# Altium schematic symbol library WR-FAST.SchLib: 56 symbols
Pins are listed as number, name and electrical type; pins without a type are passive.

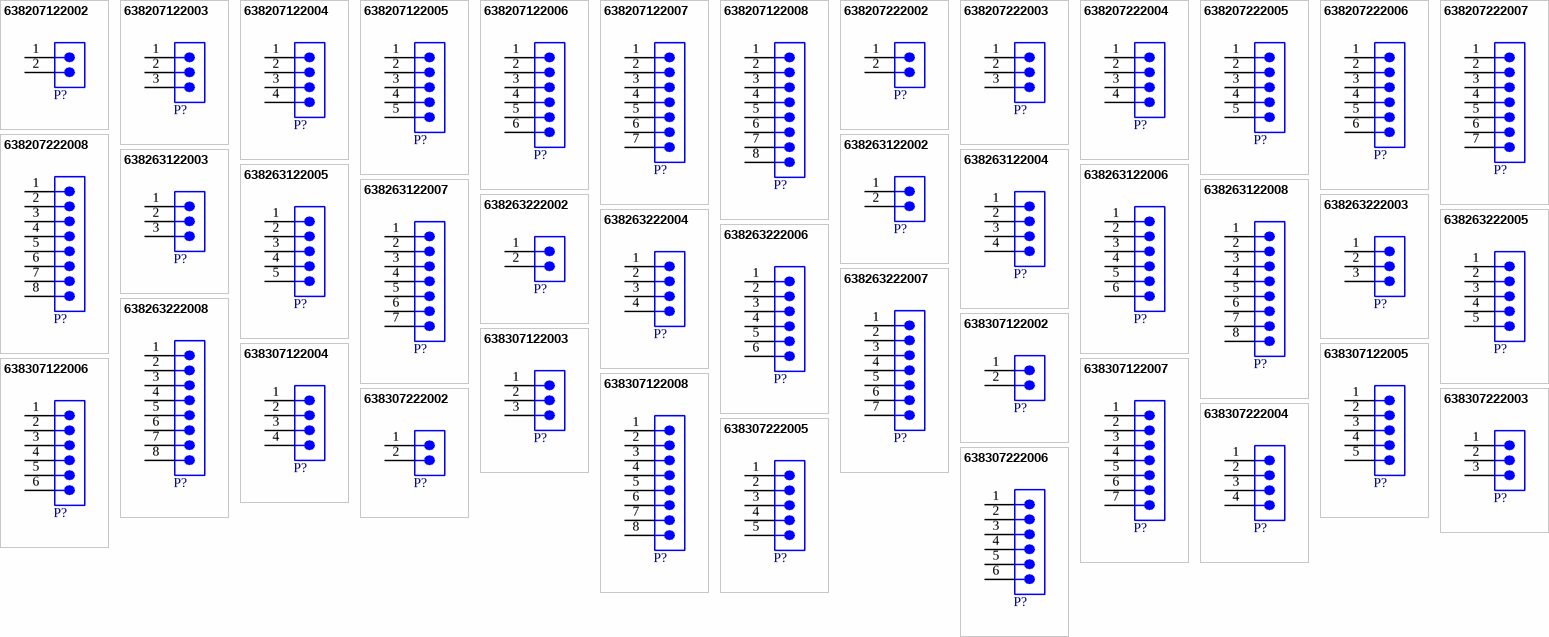
[diagram p0: symbols 638207122002 to 638307222006]

## 638207122002
designator P?  (value not drawn)
WR-FAST THT Male Header Angled Blade, pitch 5.08mm, 2p; Manufacturer: Wurth Elektronik; Contact Resistance: 20mΩ; Rated Current: 16A; Working Voltage: 300VAC; ComponentLink1Description: Website Link; ComponentLink1URL: https://www.we-online.com/redexpert/article/638207122002?ad; ComponentLink2Description: Datasheet Link; ComponentLink2URL: https://www.we-online.com/redexpert/spec/638207122002?ad; Manufacturer Part Number: 638207122002; Category: Wire-to-Board Connectors; Match Code: WR-FAST; Mount: Through Hole; Operating Temperature Max: 120°C; Operating Temperature Min: -30°C; Packaging: Carton; Gender: Male; Number of Pins: 2; Orientation: Right Angled; Pitch: 5.08mm
footprint 638207122002
pins: 1, 2

## 638207122003
designator P?  (value not drawn)
WR-FAST THT Male Header Angled Blade, pitch 5.08mm, 3p; Manufacturer: Wurth Elektronik; Contact Resistance: 20mΩ; Rated Current: 16A; Working Voltage: 300VAC; ComponentLink1Description: Website Link; ComponentLink1URL: https://www.we-online.com/redexpert/article/638207122003?ad; ComponentLink2Description: Datasheet Link; ComponentLink2URL: https://www.we-online.com/redexpert/spec/638207122003?ad; Manufacturer Part Number: 638207122003; Category: Wire-to-Board Connectors; Match Code: WR-FAST; Mount: Through Hole; Operating Temperature Max: 120°C; Operating Temperature Min: -30°C; Packaging: Carton; Gender: Male; Number of Pins: 3; Orientation: Right Angled; Pitch: 5.08mm
footprint 638207122003
pins: 1, 2, 3

## 638207122004
designator P?  (value not drawn)
WR-FAST THT Male Header Angled Blade, pitch 5.08mm, 4p; Manufacturer: Wurth Elektronik; Contact Resistance: 20mΩ; Rated Current: 16A; Working Voltage: 300VAC; ComponentLink1Description: Website Link; ComponentLink1URL: https://www.we-online.com/redexpert/article/638207122004?ad; ComponentLink2Description: Datasheet Link; ComponentLink2URL: https://www.we-online.com/redexpert/spec/638207122004?ad; Manufacturer Part Number: 638207122004; Category: Wire-to-Board Connectors; Match Code: WR-FAST; Mount: Through Hole; Operating Temperature Max: 120°C; Operating Temperature Min: -30°C; Packaging: Carton; Gender: Male; Number of Pins: 4; Orientation: Right Angled; Pitch: 5.08mm
footprint 638207122004
pins: 1, 2, 3, 4

## 638207122005
designator P?  (value not drawn)
WR-FAST THT Male Header Angled Blade, pitch 5.08mm, 5p; Manufacturer: Wurth Elektronik; Contact Resistance: 20mΩ; Rated Current: 16A; Working Voltage: 300VAC; ComponentLink1Description: Website Link; ComponentLink1URL: https://www.we-online.com/redexpert/article/638207122005?ad; ComponentLink2Description: Datasheet Link; ComponentLink2URL: https://www.we-online.com/redexpert/spec/638207122005?ad; Manufacturer Part Number: 638207122005; Category: Wire-to-Board Connectors; Match Code: WR-FAST; Mount: Through Hole; Operating Temperature Max: 120°C; Operating Temperature Min: -30°C; Packaging: Carton; Gender: Male; Number of Pins: 5; Orientation: Right Angled; Pitch: 5.08mm
footprint 638207122005
pins: 1, 2, 3, 4, 5

## 638207122006
designator P?  (value not drawn)
WR-FAST THT Male Header Angled Blade, pitch 5.08mm, 6p; Manufacturer: Wurth Elektronik; Contact Resistance: 20mΩ; Rated Current: 16A; Working Voltage: 300VAC; ComponentLink1Description: Website Link; ComponentLink1URL: https://www.we-online.com/redexpert/article/638207122006?ad; ComponentLink2Description: Datasheet Link; ComponentLink2URL: https://www.we-online.com/redexpert/spec/638207122006?ad; Manufacturer Part Number: 638207122006; Category: Wire-to-Board Connectors; Match Code: WR-FAST; Mount: Through Hole; Operating Temperature Max: 120°C; Operating Temperature Min: -30°C; Packaging: Carton; Gender: Male; Number of Pins: 6; Orientation: Right Angled; Pitch: 5.08mm
footprint 638207122006
pins: 1, 2, 3, 4, 5, 6

## 638207122007
designator P?  (value not drawn)
WR-FAST THT Male Header Angled Blade, pitch 5.08mm, 7p; Manufacturer: Wurth Elektronik; Contact Resistance: 20mΩ; Rated Current: 16A; Working Voltage: 300VAC; ComponentLink1Description: Website Link; ComponentLink1URL: https://www.we-online.com/redexpert/article/638207122007?ad; ComponentLink2Description: Datasheet Link; ComponentLink2URL: https://www.we-online.com/redexpert/spec/638207122007?ad; Manufacturer Part Number: 638207122007; Category: Wire-to-Board Connectors; Match Code: WR-FAST; Mount: Through Hole; Operating Temperature Max: 120°C; Operating Temperature Min: -30°C; Packaging: Carton; Gender: Male; Number of Pins: 7; Orientation: Right Angled; Pitch: 5.08mm
footprint 638207122007
pins: 1, 2, 3, 4, 5, 6, 7

## 638207122008
designator P?  (value not drawn)
WR-FAST THT Male Header Angled Blade, pitch 5.08mm, 8p; Manufacturer: Wurth Elektronik; Contact Resistance: 20mΩ; Rated Current: 16A; Working Voltage: 300VAC; ComponentLink1Description: Website Link; ComponentLink1URL: https://www.we-online.com/redexpert/article/638207122008?ad; ComponentLink2Description: Datasheet Link; ComponentLink2URL: https://www.we-online.com/redexpert/spec/638207122008?ad; Manufacturer Part Number: 638207122008; Category: Wire-to-Board Connectors; Match Code: WR-FAST; Mount: Through Hole; Operating Temperature Max: 120°C; Operating Temperature Min: -30°C; Packaging: Carton; Gender: Male; Number of Pins: 8; Orientation: Right Angled; Pitch: 5.08mm
footprint 638207122008
pins: 1, 2, 3, 4, 5, 6, 7, 8

## 638207222002
designator P?  (value not drawn)
WR-FAST THT Male Header Vertical Blade, pitch 5.08mm, 2p; Manufacturer: Wurth Elektronik; Contact Resistance: 20mΩ; Rated Current: 16A; Working Voltage: 300VAC; ComponentLink1Description: Website Link; ComponentLink1URL: https://www.we-online.com/redexpert/article/638207222002?ad; ComponentLink2Description: Datasheet Link; ComponentLink2URL: https://www.we-online.com/redexpert/spec/638207222002?ad; Manufacturer Part Number: 638207222002; Category: Wire-to-Board Connectors; Match Code: WR-FAST; Mount: Through Hole; Operating Temperature Max: 120°C; Operating Temperature Min: -30°C; Packaging: Carton; Gender: Male; Number of Pins: 2; Orientation: Vertical; Pitch: 5.08mm
footprint 638207222002
pins: 1, 2

## 638207222003
designator P?  (value not drawn)
WR-FAST THT Male Header Vertical Blade, pitch 5.08mm, 3p; Manufacturer: Wurth Elektronik; Contact Resistance: 20mΩ; Rated Current: 16A; Working Voltage: 300VAC; ComponentLink1Description: Website Link; ComponentLink1URL: https://www.we-online.com/redexpert/article/638207222003?ad; ComponentLink2Description: Datasheet Link; ComponentLink2URL: https://www.we-online.com/redexpert/spec/638207222003?ad; Manufacturer Part Number: 638207222003; Category: Wire-to-Board Connectors; Match Code: WR-FAST; Mount: Through Hole; Operating Temperature Max: 120°C; Operating Temperature Min: -30°C; Packaging: Carton; Gender: Male; Number of Pins: 3; Orientation: Vertical; Pitch: 5.08mm
footprint 638207222003
pins: 1, 2, 3

## 638207222004
designator P?  (value not drawn)
WR-FAST THT Male Header Vertical Blade, pitch 5.08mm, 4p; Manufacturer: Wurth Elektronik; Contact Resistance: 20mΩ; Rated Current: 16A; Working Voltage: 300VAC; ComponentLink1Description: Website Link; ComponentLink1URL: https://www.we-online.com/redexpert/article/638207222004?ad; ComponentLink2Description: Datasheet Link; ComponentLink2URL: https://www.we-online.com/redexpert/spec/638207222004?ad; Manufacturer Part Number: 638207222004; Category: Wire-to-Board Connectors; Match Code: WR-FAST; Mount: Through Hole; Operating Temperature Max: 120°C; Operating Temperature Min: -30°C; Packaging: Carton; Gender: Male; Number of Pins: 4; Orientation: Vertical; Pitch: 5.08mm
footprint 638207222004
pins: 1, 2, 3, 4

## 638207222005
designator P?  (value not drawn)
WR-FAST THT Male Header Vertical Blade, pitch 5.08mm, 5p; Manufacturer: Wurth Elektronik; Contact Resistance: 20mΩ; Rated Current: 16A; Working Voltage: 300VAC; ComponentLink1Description: Website Link; ComponentLink1URL: https://www.we-online.com/redexpert/article/638207222005?ad; ComponentLink2Description: Datasheet Link; ComponentLink2URL: https://www.we-online.com/redexpert/spec/638207222005?ad; Manufacturer Part Number: 638207222005; Category: Wire-to-Board Connectors; Match Code: WR-FAST; Mount: Through Hole; Operating Temperature Max: 120°C; Operating Temperature Min: -30°C; Packaging: Carton; Gender: Male; Number of Pins: 5; Orientation: Vertical; Pitch: 5.08mm
footprint 638207222005
pins: 1, 2, 3, 4, 5

## 638207222006
designator P?  (value not drawn)
WR-FAST THT Male Header Vertical Blade, pitch 5.08mm, 6p; Manufacturer: Wurth Elektronik; Contact Resistance: 20mΩ; Rated Current: 16A; Working Voltage: 300VAC; ComponentLink1Description: Website Link; ComponentLink1URL: https://www.we-online.com/redexpert/article/638207222006?ad; ComponentLink2Description: Datasheet Link; ComponentLink2URL: https://www.we-online.com/redexpert/spec/638207222006?ad; Manufacturer Part Number: 638207222006; Category: Wire-to-Board Connectors; Match Code: WR-FAST; Mount: Through Hole; Operating Temperature Max: 120°C; Operating Temperature Min: -30°C; Packaging: Carton; Gender: Male; Number of Pins: 6; Orientation: Vertical; Pitch: 5.08mm
footprint 638207222006
pins: 1, 2, 3, 4, 5, 6

## 638207222007
designator P?  (value not drawn)
WR-FAST THT Male Header Vertical Blade, pitch 5.08mm, 7p; Manufacturer: Wurth Elektronik; Contact Resistance: 20mΩ; Rated Current: 16A; Working Voltage: 300VAC; ComponentLink1Description: Website Link; ComponentLink1URL: https://www.we-online.com/redexpert/article/638207222007?ad; ComponentLink2Description: Datasheet Link; ComponentLink2URL: https://www.we-online.com/redexpert/spec/638207222007?ad; Manufacturer Part Number: 638207222007; Category: Wire-to-Board Connectors; Match Code: WR-FAST; Mount: Through Hole; Operating Temperature Max: 120°C; Operating Temperature Min: -30°C; Packaging: Carton; Gender: Male; Number of Pins: 7; Orientation: Vertical; Pitch: 5.08mm
footprint 638207222007
pins: 1, 2, 3, 4, 5, 6, 7

## 638207222008
designator P?  (value not drawn)
WR-FAST THT Male Header Vertical Blade, pitch 5.08mm, 8p; Manufacturer: Wurth Elektronik; Contact Resistance: 20mΩ; Rated Current: 16A; Working Voltage: 300VAC; ComponentLink1Description: Website Link; ComponentLink1URL: https://www.we-online.com/redexpert/article/638207222008?ad; ComponentLink2Description: Datasheet Link; ComponentLink2URL: https://www.we-online.com/redexpert/spec/638207222008?ad; Manufacturer Part Number: 638207222008; Category: Wire-to-Board Connectors; Match Code: WR-FAST; Mount: Through Hole; Operating Temperature Max: 120°C; Operating Temperature Min: -30°C; Packaging: Carton; Gender: Male; Number of Pins: 8; Orientation: Vertical; Pitch: 5.08mm
footprint 638207222008
pins: 1, 2, 3, 4, 5, 6, 7, 8

## 638263122002
designator P?  (value not drawn)
WR-FAST THT Male Header Angled Blade, pitch 5.08mm, 2p; Manufacturer: Wurth Elektronik; Contact Resistance: 20mΩ; Rated Current: 16A; Working Voltage: 300VAC; ComponentLink1Description: Website Link; ComponentLink1URL: https://www.we-online.com/redexpert/article/638263122002?ad; ComponentLink2Description: Datasheet Link; ComponentLink2URL: https://www.we-online.com/redexpert/spec/638263122002?ad; Manufacturer Part Number: 638263122002; Category: Wire-to-Board Connectors; Match Code: WR-FAST; Mount: Through Hole; Operating Temperature Max: 120°C; Operating Temperature Min: -30°C; Packaging: Carton; Gender: Male; Number of Pins: 2; Orientation: Right Angled; Pitch: 5.08mm
footprint 638263122002
pins: 1, 2

## 638263122003
designator P?  (value not drawn)
WR-FAST THT Male Header Angled Blade, pitch 5.08mm, 3p; Manufacturer: Wurth Elektronik; Contact Resistance: 20mΩ; Rated Current: 16A; Working Voltage: 300VAC; ComponentLink1Description: Website Link; ComponentLink1URL: https://www.we-online.com/redexpert/article/638263122003?ad; ComponentLink2Description: Datasheet Link; ComponentLink2URL: https://www.we-online.com/redexpert/spec/638263122003?ad; Manufacturer Part Number: 638263122003; Category: Wire-to-Board Connectors; Match Code: WR-FAST; Mount: Through Hole; Operating Temperature Max: 120°C; Operating Temperature Min: -30°C; Packaging: Carton; Gender: Male; Number of Pins: 3; Orientation: Right Angled; Pitch: 5.08mm
footprint 638263122003
pins: 1, 2, 3

## 638263122004
designator P?  (value not drawn)
WR-FAST THT Male Header Angled Blade, pitch 5.08mm, 4p; Manufacturer: Wurth Elektronik; Contact Resistance: 20mΩ; Rated Current: 16A; Working Voltage: 300VAC; ComponentLink1Description: Website Link; ComponentLink1URL: https://www.we-online.com/redexpert/article/638263122004?ad; ComponentLink2Description: Datasheet Link; ComponentLink2URL: https://www.we-online.com/redexpert/spec/638263122004?ad; Manufacturer Part Number: 638263122004; Category: Wire-to-Board Connectors; Match Code: WR-FAST; Mount: Through Hole; Operating Temperature Max: 120°C; Operating Temperature Min: -30°C; Packaging: Carton; Gender: Male; Number of Pins: 4; Orientation: Right Angled; Pitch: 5.08mm
footprint 638263122004
pins: 1, 2, 3, 4

## 638263122005
designator P?  (value not drawn)
WR-FAST THT Male Header Angled Blade, pitch 5.08mm, 5p; Manufacturer: Wurth Elektronik; Contact Resistance: 20mΩ; Rated Current: 16A; Working Voltage: 300VAC; ComponentLink1Description: Website Link; ComponentLink1URL: https://www.we-online.com/redexpert/article/638263122005?ad; ComponentLink2Description: Datasheet Link; ComponentLink2URL: https://www.we-online.com/redexpert/spec/638263122005?ad; Manufacturer Part Number: 638263122005; Category: Wire-to-Board Connectors; Match Code: WR-FAST; Mount: Through Hole; Operating Temperature Max: 120°C; Operating Temperature Min: -30°C; Packaging: Carton; Gender: Male; Number of Pins: 5; Orientation: Right Angled; Pitch: 5.08mm
footprint 638263122005
pins: 1, 2, 3, 4, 5

## 638263122006
designator P?  (value not drawn)
WR-FAST THT Male Header Angled Blade, pitch 5.08mm, 6p; Manufacturer: Wurth Elektronik; Contact Resistance: 20mΩ; Rated Current: 16A; Working Voltage: 300VAC; ComponentLink1Description: Website Link; ComponentLink1URL: https://www.we-online.com/redexpert/article/638263122006?ad; ComponentLink2Description: Datasheet Link; ComponentLink2URL: https://www.we-online.com/redexpert/spec/638263122006?ad; Manufacturer Part Number: 638263122006; Category: Wire-to-Board Connectors; Match Code: WR-FAST; Mount: Through Hole; Operating Temperature Max: 120°C; Operating Temperature Min: -30°C; Packaging: Carton; Gender: Male; Number of Pins: 6; Orientation: Right Angled; Pitch: 5.08mm
footprint 638263122006
pins: 1, 2, 3, 4, 5, 6

## 638263122007
designator P?  (value not drawn)
WR-FAST THT Male Header Angled Blade, pitch 5.08mm, 7p; Manufacturer: Wurth Elektronik; Contact Resistance: 20mΩ; Rated Current: 16A; Working Voltage: 300VAC; ComponentLink1Description: Website Link; ComponentLink1URL: https://www.we-online.com/redexpert/article/638263122007?ad; ComponentLink2Description: Datasheet Link; ComponentLink2URL: https://www.we-online.com/redexpert/spec/638263122007?ad; Manufacturer Part Number: 638263122007; Category: Wire-to-Board Connectors; Match Code: WR-FAST; Mount: Through Hole; Operating Temperature Max: 120°C; Operating Temperature Min: -30°C; Packaging: Carton; Gender: Male; Number of Pins: 7; Orientation: Right Angled; Pitch: 5.08mm
footprint 638263122007
pins: 1, 2, 3, 4, 5, 6, 7

## 638263122008
designator P?  (value not drawn)
WR-FAST THT Male Header Angled Blade, pitch 5.08mm, 8p; Manufacturer: Wurth Elektronik; Contact Resistance: 20mΩ; Rated Current: 16A; Working Voltage: 300VAC; ComponentLink1Description: Website Link; ComponentLink1URL: https://www.we-online.com/redexpert/article/638263122008?ad; ComponentLink2Description: Datasheet Link; ComponentLink2URL: https://www.we-online.com/redexpert/spec/638263122008?ad; Manufacturer Part Number: 638263122008; Category: Wire-to-Board Connectors; Match Code: WR-FAST; Mount: Through Hole; Operating Temperature Max: 120°C; Operating Temperature Min: -30°C; Packaging: Carton; Gender: Male; Number of Pins: 8; Orientation: Right Angled; Pitch: 5.08mm
footprint 638263122008
pins: 1, 2, 3, 4, 5, 6, 7, 8

## 638263222002
designator P?  (value not drawn)
WR-FAST THT Male Header Vertical Blade, pitch 5.08mm, 2p; Manufacturer: Wurth Elektronik; Contact Resistance: 20mΩ; Rated Current: 16A; Working Voltage: 300VAC; ComponentLink1Description: Website Link; ComponentLink1URL: https://www.we-online.com/redexpert/article/638263222002?ad; ComponentLink2Description: Datasheet Link; ComponentLink2URL: https://www.we-online.com/redexpert/spec/638263222002?ad; Manufacturer Part Number: 638263222002; Category: Wire-to-Board Connectors; Match Code: WR-FAST; Mount: Through Hole; Operating Temperature Max: 120°C; Operating Temperature Min: -30°C; Packaging: Carton; Gender: Male; Number of Pins: 2; Orientation: Vertical; Pitch: 5.08mm
footprint 638263222002
pins: 1, 2

## 638263222003
designator P?  (value not drawn)
WR-FAST THT Male Header Vertical Blade, pitch 5.08mm, 3p; Manufacturer: Wurth Elektronik; Contact Resistance: 20mΩ; Rated Current: 16A; Working Voltage: 300VAC; ComponentLink1Description: Website Link; ComponentLink1URL: https://www.we-online.com/redexpert/article/638263222003?ad; ComponentLink2Description: Datasheet Link; ComponentLink2URL: https://www.we-online.com/redexpert/spec/638263222003?ad; Manufacturer Part Number: 638263222003; Category: Wire-to-Board Connectors; Match Code: WR-FAST; Mount: Through Hole; Operating Temperature Max: 120°C; Operating Temperature Min: -30°C; Packaging: Carton; Gender: Male; Number of Pins: 3; Orientation: Vertical; Pitch: 5.08mm
footprint 638263222003
pins: 1, 2, 3

## 638263222004
designator P?  (value not drawn)
WR-FAST THT Male Header Vertical Blade, pitch 5.08mm, 4p; Manufacturer: Wurth Elektronik; Contact Resistance: 20mΩ; Rated Current: 16A; Working Voltage: 300VAC; ComponentLink1Description: Website Link; ComponentLink1URL: https://www.we-online.com/redexpert/article/638263222004?ad; ComponentLink2Description: Datasheet Link; ComponentLink2URL: https://www.we-online.com/redexpert/spec/638263222004?ad; Manufacturer Part Number: 638263222004; Category: Wire-to-Board Connectors; Match Code: WR-FAST; Mount: Through Hole; Operating Temperature Max: 120°C; Operating Temperature Min: -30°C; Packaging: Carton; Gender: Male; Number of Pins: 4; Orientation: Vertical; Pitch: 5.08mm
footprint 638263222004
pins: 1, 2, 3, 4

## 638263222005
designator P?  (value not drawn)
WR-FAST THT Male Header Vertical Blade, pitch 5.08mm, 5p; Manufacturer: Wurth Elektronik; Contact Resistance: 20mΩ; Rated Current: 16A; Working Voltage: 300VAC; ComponentLink1Description: Website Link; ComponentLink1URL: https://www.we-online.com/redexpert/article/638263222005?ad; ComponentLink2Description: Datasheet Link; ComponentLink2URL: https://www.we-online.com/redexpert/spec/638263222005?ad; Manufacturer Part Number: 638263222005; Category: Wire-to-Board Connectors; Match Code: WR-FAST; Mount: Through Hole; Operating Temperature Max: 120°C; Operating Temperature Min: -30°C; Packaging: Carton; Gender: Male; Number of Pins: 5; Orientation: Vertical; Pitch: 5.08mm
footprint 638263222005
pins: 1, 2, 3, 4, 5

## 638263222006
designator P?  (value not drawn)
WR-FAST THT Male Header Vertical Blade, pitch 5.08mm, 6p; Manufacturer: Wurth Elektronik; Contact Resistance: 20mΩ; Rated Current: 16A; Working Voltage: 300VAC; ComponentLink1Description: Website Link; ComponentLink1URL: https://www.we-online.com/redexpert/article/638263222006?ad; ComponentLink2Description: Datasheet Link; ComponentLink2URL: https://www.we-online.com/redexpert/spec/638263222006?ad; Manufacturer Part Number: 638263222006; Category: Wire-to-Board Connectors; Match Code: WR-FAST; Mount: Through Hole; Operating Temperature Max: 120°C; Operating Temperature Min: -30°C; Packaging: Carton; Gender: Male; Number of Pins: 6; Orientation: Vertical; Pitch: 5.08mm
footprint 638263222006
pins: 1, 2, 3, 4, 5, 6

## 638263222007
designator P?  (value not drawn)
WR-FAST THT Male Header Vertical Blade, pitch 5.08mm, 7p; Manufacturer: Wurth Elektronik; Contact Resistance: 20mΩ; Rated Current: 16A; Working Voltage: 300VAC; ComponentLink1Description: Website Link; ComponentLink1URL: https://www.we-online.com/redexpert/article/638263222007?ad; ComponentLink2Description: Datasheet Link; ComponentLink2URL: https://www.we-online.com/redexpert/spec/638263222007?ad; Manufacturer Part Number: 638263222007; Category: Wire-to-Board Connectors; Match Code: WR-FAST; Mount: Through Hole; Operating Temperature Max: 120°C; Operating Temperature Min: -30°C; Packaging: Carton; Gender: Male; Number of Pins: 7; Orientation: Vertical; Pitch: 5.08mm
footprint 638263222007
pins: 1, 2, 3, 4, 5, 6, 7

## 638263222008
designator P?  (value not drawn)
WR-FAST THT Male Header Vertical Blade, pitch 5.08mm, 8p; Manufacturer: Wurth Elektronik; Contact Resistance: 20mΩ; Rated Current: 16A; Working Voltage: 300VAC; ComponentLink1Description: Website Link; ComponentLink1URL: https://www.we-online.com/redexpert/article/638263222008?ad; ComponentLink2Description: Datasheet Link; ComponentLink2URL: https://www.we-online.com/redexpert/spec/638263222008?ad; Manufacturer Part Number: 638263222008; Category: Wire-to-Board Connectors; Match Code: WR-FAST; Mount: Through Hole; Operating Temperature Max: 120°C; Operating Temperature Min: -30°C; Packaging: Carton; Gender: Male; Number of Pins: 8; Orientation: Vertical; Pitch: 5.08mm
footprint 638263222008
pins: 1, 2, 3, 4, 5, 6, 7, 8

## 638307122002
designator P?  (value not drawn)
WR-FAST THT Male Header Angled Blade, pitch 7.62mm, 2p; Manufacturer: Wurth Elektronik; Contact Resistance: 20mΩ; Rated Current: 16A; Working Voltage: 300VAC; ComponentLink1Description: Website Link; ComponentLink1URL: https://www.we-online.com/redexpert/article/638307122002?ad; ComponentLink2Description: Datasheet Link; ComponentLink2URL: https://www.we-online.com/redexpert/spec/638307122002?ad; Manufacturer Part Number: 638307122002; Category: Wire-to-Board Connectors; Match Code: WR-FAST; Mount: Through Hole; Operating Temperature Max: 120°C; Operating Temperature Min: -30°C; Packaging: Carton; Gender: Male; Number of Pins: 2; Orientation: Right Angled; Pitch: 7.62mm
footprint 638307122002
pins: 1, 2

## 638307122003
designator P?  (value not drawn)
WR-FAST THT Male Header Angled Blade, pitch 7.62mm, 3p; Manufacturer: Wurth Elektronik; Contact Resistance: 20mΩ; Rated Current: 16A; Working Voltage: 300VAC; ComponentLink1Description: Website Link; ComponentLink1URL: https://www.we-online.com/redexpert/article/638307122003?ad; ComponentLink2Description: Datasheet Link; ComponentLink2URL: https://www.we-online.com/redexpert/spec/638307122003?ad; Manufacturer Part Number: 638307122003; Category: Wire-to-Board Connectors; Match Code: WR-FAST; Mount: Through Hole; Operating Temperature Max: 120°C; Operating Temperature Min: -30°C; Packaging: Carton; Gender: Male; Number of Pins: 3; Orientation: Right Angled; Pitch: 7.62mm
footprint 638307122003
pins: 1, 2, 3

## 638307122004
designator P?  (value not drawn)
WR-FAST THT Male Header Angled Blade, pitch 7.62mm, 4p; Manufacturer: Wurth Elektronik; Contact Resistance: 20mΩ; Rated Current: 16A; Working Voltage: 300VAC; ComponentLink1Description: Website Link; ComponentLink1URL: https://www.we-online.com/redexpert/article/638307122004?ad; ComponentLink2Description: Datasheet Link; ComponentLink2URL: https://www.we-online.com/redexpert/spec/638307122004?ad; Manufacturer Part Number: 638307122004; Category: Wire-to-Board Connectors; Match Code: WR-FAST; Mount: Through Hole; Operating Temperature Max: 120°C; Operating Temperature Min: -30°C; Packaging: Carton; Gender: Male; Number of Pins: 4; Orientation: Right Angled; Pitch: 7.62mm
footprint 638307122004
pins: 1, 2, 3, 4

## 638307122005
designator P?  (value not drawn)
WR-FAST THT Male Header Angled Blade, pitch 7.62mm, 5p; Manufacturer: Wurth Elektronik; Contact Resistance: 20mΩ; Rated Current: 16A; Working Voltage: 300VAC; ComponentLink1Description: Website Link; ComponentLink1URL: https://www.we-online.com/redexpert/article/638307122005?ad; ComponentLink2Description: Datasheet Link; ComponentLink2URL: https://www.we-online.com/redexpert/spec/638307122005?ad; Manufacturer Part Number: 638307122005; Category: Wire-to-Board Connectors; Match Code: WR-FAST; Mount: Through Hole; Operating Temperature Max: 120°C; Operating Temperature Min: -30°C; Packaging: Carton; Gender: Male; Number of Pins: 5; Orientation: Right Angled; Pitch: 7.62mm
footprint 638307122005
pins: 1, 2, 3, 4, 5

## 638307122006
designator P?  (value not drawn)
WR-FAST THT Male Header Angled Blade, pitch 7.62mm, 6p; Manufacturer: Wurth Elektronik; Contact Resistance: 20mΩ; Rated Current: 16A; Working Voltage: 300VAC; ComponentLink1Description: Website Link; ComponentLink1URL: https://www.we-online.com/redexpert/article/638307122006?ad; ComponentLink2Description: Datasheet Link; ComponentLink2URL: https://www.we-online.com/redexpert/spec/638307122006?ad; Manufacturer Part Number: 638307122006; Category: Wire-to-Board Connectors; Match Code: WR-FAST; Mount: Through Hole; Operating Temperature Max: 120°C; Operating Temperature Min: -30°C; Packaging: Carton; Gender: Male; Number of Pins: 6; Orientation: Right Angled; Pitch: 7.62mm
footprint 638307122006
pins: 1, 2, 3, 4, 5, 6

## 638307122007
designator P?  (value not drawn)
WR-FAST THT Male Header Angled Blade, pitch 7.62mm, 7p; Manufacturer: Wurth Elektronik; Contact Resistance: 20mΩ; Rated Current: 16A; Working Voltage: 300VAC; ComponentLink1Description: Website Link; ComponentLink1URL: https://www.we-online.com/redexpert/article/638307122007?ad; ComponentLink2Description: Datasheet Link; ComponentLink2URL: https://www.we-online.com/redexpert/spec/638307122007?ad; Manufacturer Part Number: 638307122007; Category: Wire-to-Board Connectors; Match Code: WR-FAST; Mount: Through Hole; Operating Temperature Max: 120°C; Operating Temperature Min: -30°C; Packaging: Carton; Gender: Male; Number of Pins: 7; Orientation: Right Angled; Pitch: 7.62mm
footprint 638307122007
pins: 1, 2, 3, 4, 5, 6, 7

## 638307122008
designator P?  (value not drawn)
WR-FAST THT Male Header Angled Blade, pitch 7.62mm, 8p; Manufacturer: Wurth Elektronik; Contact Resistance: 20mΩ; Rated Current: 16A; Working Voltage: 300VAC; ComponentLink1Description: Website Link; ComponentLink1URL: https://www.we-online.com/redexpert/article/638307122008?ad; ComponentLink2Description: Datasheet Link; ComponentLink2URL: https://www.we-online.com/redexpert/spec/638307122008?ad; Manufacturer Part Number: 638307122008; Category: Wire-to-Board Connectors; Match Code: WR-FAST; Mount: Through Hole; Operating Temperature Max: 120°C; Operating Temperature Min: -30°C; Packaging: Carton; Gender: Male; Number of Pins: 8; Orientation: Right Angled; Pitch: 7.62mm
footprint 638307122008
pins: 1, 2, 3, 4, 5, 6, 7, 8

## 638307222002
designator P?  (value not drawn)
WR-FAST THT Male Header Vertical Blade, pitch 7.62mm, 2p; Manufacturer: Wurth Elektronik; Contact Resistance: 20mΩ; Rated Current: 16A; Working Voltage: 300VAC; ComponentLink1Description: Website Link; ComponentLink1URL: https://www.we-online.com/redexpert/article/638307222002?ad; ComponentLink2Description: Datasheet Link; ComponentLink2URL: https://www.we-online.com/redexpert/spec/638307222002?ad; Manufacturer Part Number: 638307222002; Category: Wire-to-Board Connectors; Match Code: WR-FAST; Mount: Through Hole; Operating Temperature Max: 120°C; Operating Temperature Min: -30°C; Packaging: Carton; Gender: Male; Number of Pins: 2; Orientation: Vertical; Pitch: 7.62mm
footprint 638307222002
pins: 1, 2

## 638307222003
designator P?  (value not drawn)
WR-FAST THT Male Header Vertical Blade, pitch 7.62mm, 3p; Manufacturer: Wurth Elektronik; Contact Resistance: 20mΩ; Rated Current: 16A; Working Voltage: 300VAC; ComponentLink1Description: Website Link; ComponentLink1URL: https://www.we-online.com/redexpert/article/638307222003?ad; ComponentLink2Description: Datasheet Link; ComponentLink2URL: https://www.we-online.com/redexpert/spec/638307222003?ad; Manufacturer Part Number: 638307222003; Category: Wire-to-Board Connectors; Match Code: WR-FAST; Mount: Through Hole; Operating Temperature Max: 120°C; Operating Temperature Min: -30°C; Packaging: Carton; Gender: Male; Number of Pins: 3; Orientation: Vertical; Pitch: 7.62mm
footprint 638307222003
pins: 1, 2, 3

## 638307222004
designator P?  (value not drawn)
WR-FAST THT Male Header Vertical Blade, pitch 7.62mm, 4p; Manufacturer: Wurth Elektronik; Contact Resistance: 20mΩ; Rated Current: 16A; Working Voltage: 300VAC; ComponentLink1Description: Website Link; ComponentLink1URL: https://www.we-online.com/redexpert/article/638307222004?ad; ComponentLink2Description: Datasheet Link; ComponentLink2URL: https://www.we-online.com/redexpert/spec/638307222004?ad; Manufacturer Part Number: 638307222004; Category: Wire-to-Board Connectors; Match Code: WR-FAST; Mount: Through Hole; Operating Temperature Max: 120°C; Operating Temperature Min: -30°C; Packaging: Carton; Gender: Male; Number of Pins: 4; Orientation: Vertical; Pitch: 7.62mm
footprint 638307222004
pins: 1, 2, 3, 4

## 638307222005
designator P?  (value not drawn)
WR-FAST THT Male Header Vertical Blade, pitch 7.62mm, 5p; Manufacturer: Wurth Elektronik; Contact Resistance: 20mΩ; Rated Current: 16A; Working Voltage: 300VAC; ComponentLink1Description: Website Link; ComponentLink1URL: https://www.we-online.com/redexpert/article/638307222005?ad; ComponentLink2Description: Datasheet Link; ComponentLink2URL: https://www.we-online.com/redexpert/spec/638307222005?ad; Manufacturer Part Number: 638307222005; Category: Wire-to-Board Connectors; Match Code: WR-FAST; Mount: Through Hole; Operating Temperature Max: 120°C; Operating Temperature Min: -30°C; Packaging: Carton; Gender: Male; Number of Pins: 5; Orientation: Vertical; Pitch: 7.62mm
footprint 638307222005
pins: 1, 2, 3, 4, 5

## 638307222006
designator P?  (value not drawn)
WR-FAST THT Male Header Vertical Blade, pitch 7.62mm, 6p; Manufacturer: Wurth Elektronik; Contact Resistance: 20mΩ; Rated Current: 16A; Working Voltage: 300VAC; ComponentLink1Description: Website Link; ComponentLink1URL: https://www.we-online.com/redexpert/article/638307222006?ad; ComponentLink2Description: Datasheet Link; ComponentLink2URL: https://www.we-online.com/redexpert/spec/638307222006?ad; Manufacturer Part Number: 638307222006; Category: Wire-to-Board Connectors; Match Code: WR-FAST; Mount: Through Hole; Operating Temperature Max: 120°C; Operating Temperature Min: -30°C; Packaging: Carton; Gender: Male; Number of Pins: 6; Orientation: Vertical; Pitch: 7.62mm
footprint 638307222006
pins: 1, 2, 3, 4, 5, 6

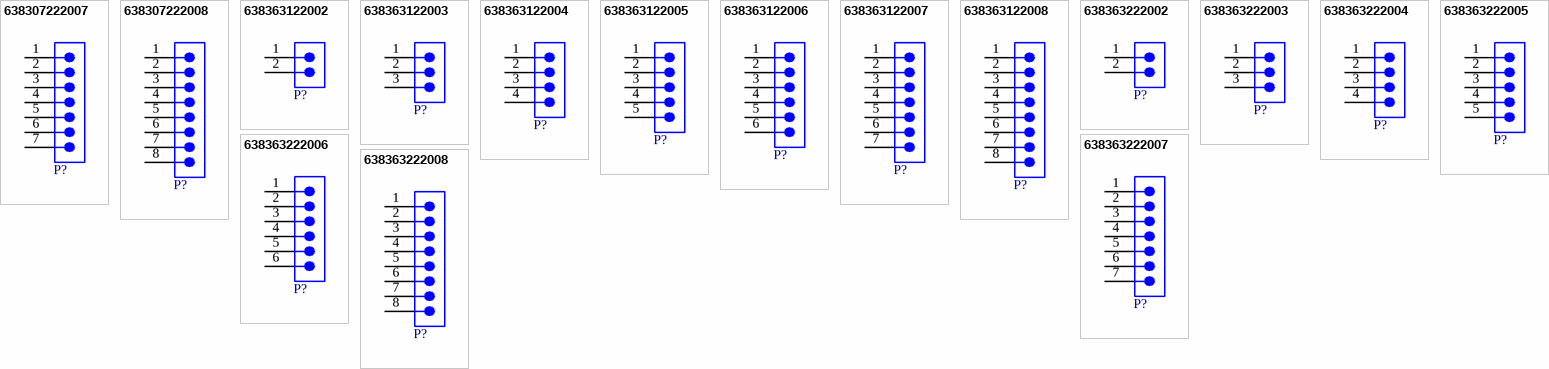
[diagram p1: symbols 638307222007 to 638363222008]

## 638307222007
designator P?  (value not drawn)
WR-FAST THT Male Header Vertical Blade, pitch 7.62mm, 7p; Manufacturer: Wurth Elektronik; Contact Resistance: 20mΩ; Rated Current: 16A; Working Voltage: 300VAC; ComponentLink1Description: Website Link; ComponentLink1URL: https://www.we-online.com/redexpert/article/638307222007?ad; ComponentLink2Description: Datasheet Link; ComponentLink2URL: https://www.we-online.com/redexpert/spec/638307222007?ad; Manufacturer Part Number: 638307222007; Category: Wire-to-Board Connectors; Match Code: WR-FAST; Mount: Through Hole; Operating Temperature Max: 120°C; Operating Temperature Min: -30°C; Packaging: Carton; Gender: Male; Number of Pins: 7; Orientation: Vertical; Pitch: 7.62mm
footprint 638307222007
pins: 1, 2, 3, 4, 5, 6, 7

## 638307222008
designator P?  (value not drawn)
WR-FAST THT Male Header Vertical Blade, pitch 7.62mm, 8p; Manufacturer: Wurth Elektronik; Contact Resistance: 20mΩ; Rated Current: 16A; Working Voltage: 300VAC; ComponentLink1Description: Website Link; ComponentLink1URL: https://www.we-online.com/redexpert/article/638307222008?ad; ComponentLink2Description: Datasheet Link; ComponentLink2URL: https://www.we-online.com/redexpert/spec/638307222008?ad; Manufacturer Part Number: 638307222008; Category: Wire-to-Board Connectors; Match Code: WR-FAST; Mount: Through Hole; Operating Temperature Max: 120°C; Operating Temperature Min: -30°C; Packaging: Carton; Gender: Male; Number of Pins: 8; Orientation: Vertical; Pitch: 7.62mm
footprint 638307222008
pins: 1, 2, 3, 4, 5, 6, 7, 8

## 638363122002
designator P?  (value not drawn)
WR-FAST THT Male Header Angled Blade, pitch 7.62mm, 2p; Manufacturer: Wurth Elektronik; Contact Resistance: 20mΩ; Rated Current: 16A; Working Voltage: 300VAC; ComponentLink1Description: Website Link; ComponentLink1URL: https://www.we-online.com/redexpert/article/638363122002?ad; ComponentLink2Description: Datasheet Link; ComponentLink2URL: https://www.we-online.com/redexpert/spec/638363122002?ad; Manufacturer Part Number: 638363122002; Category: Wire-to-Board Connectors; Match Code: WR-FAST; Mount: Through Hole; Operating Temperature Max: 120°C; Operating Temperature Min: -30°C; Packaging: Carton; Gender: Male; Number of Pins: 2; Orientation: Right Angled; Pitch: 7.62mm
footprint 638363122002
pins: 1, 2

## 638363122003
designator P?  (value not drawn)
WR-FAST THT Male Header Angled Blade, pitch 7.62mm, 3p; Manufacturer: Wurth Elektronik; Contact Resistance: 20mΩ; Rated Current: 16A; Working Voltage: 300VAC; ComponentLink1Description: Website Link; ComponentLink1URL: https://www.we-online.com/redexpert/article/638363122003?ad; ComponentLink2Description: Datasheet Link; ComponentLink2URL: https://www.we-online.com/redexpert/spec/638363122003?ad; Manufacturer Part Number: 638363122003; Category: Wire-to-Board Connectors; Match Code: WR-FAST; Mount: Through Hole; Operating Temperature Max: 120°C; Operating Temperature Min: -30°C; Packaging: Carton; Gender: Male; Number of Pins: 3; Orientation: Right Angled; Pitch: 7.62mm
footprint 638363122003
pins: 1, 2, 3

## 638363122004
designator P?  (value not drawn)
WR-FAST THT Male Header Angled Blade, pitch 7.62mm, 4p; Manufacturer: Wurth Elektronik; Contact Resistance: 20mΩ; Rated Current: 16A; Working Voltage: 300VAC; ComponentLink1Description: Website Link; ComponentLink1URL: https://www.we-online.com/redexpert/article/638363122004?ad; ComponentLink2Description: Datasheet Link; ComponentLink2URL: https://www.we-online.com/redexpert/spec/638363122004?ad; Manufacturer Part Number: 638363122004; Category: Wire-to-Board Connectors; Match Code: WR-FAST; Mount: Through Hole; Operating Temperature Max: 120°C; Operating Temperature Min: -30°C; Packaging: Carton; Gender: Male; Number of Pins: 4; Orientation: Right Angled; Pitch: 7.62mm
footprint 638363122004
pins: 1, 2, 3, 4

## 638363122005
designator P?  (value not drawn)
WR-FAST THT Male Header Angled Blade, pitch 7.62mm, 5p; Manufacturer: Wurth Elektronik; Contact Resistance: 20mΩ; Rated Current: 16A; Working Voltage: 300VAC; ComponentLink1Description: Website Link; ComponentLink1URL: https://www.we-online.com/redexpert/article/638363122005?ad; ComponentLink2Description: Datasheet Link; ComponentLink2URL: https://www.we-online.com/redexpert/spec/638363122005?ad; Manufacturer Part Number: 638363122005; Category: Wire-to-Board Connectors; Match Code: WR-FAST; Mount: Through Hole; Operating Temperature Max: 120°C; Operating Temperature Min: -30°C; Packaging: Carton; Gender: Male; Number of Pins: 5; Orientation: Right Angled; Pitch: 7.62mm
footprint 638363122005
pins: 1, 2, 3, 4, 5

## 638363122006
designator P?  (value not drawn)
WR-FAST THT Male Header Angled Blade, pitch 7.62mm, 6p; Manufacturer: Wurth Elektronik; Contact Resistance: 20mΩ; Rated Current: 16A; Working Voltage: 300VAC; ComponentLink1Description: Website Link; ComponentLink1URL: https://www.we-online.com/redexpert/article/638363122006?ad; ComponentLink2Description: Datasheet Link; ComponentLink2URL: https://www.we-online.com/redexpert/spec/638363122006?ad; Manufacturer Part Number: 638363122006; Category: Wire-to-Board Connectors; Match Code: WR-FAST; Mount: Through Hole; Operating Temperature Max: 120°C; Operating Temperature Min: -30°C; Packaging: Carton; Gender: Male; Number of Pins: 6; Orientation: Right Angled; Pitch: 7.62mm
footprint 638363122006
pins: 1, 2, 3, 4, 5, 6

## 638363122007
designator P?  (value not drawn)
WR-FAST THT Male Header Angled Blade, pitch 7.62mm, 7p; Manufacturer: Wurth Elektronik; Contact Resistance: 20mΩ; Rated Current: 16A; Working Voltage: 300VAC; ComponentLink1Description: Website Link; ComponentLink1URL: https://www.we-online.com/redexpert/article/638363122007?ad; ComponentLink2Description: Datasheet Link; ComponentLink2URL: https://www.we-online.com/redexpert/spec/638363122007?ad; Manufacturer Part Number: 638363122007; Category: Wire-to-Board Connectors; Match Code: WR-FAST; Mount: Through Hole; Operating Temperature Max: 120°C; Operating Temperature Min: -30°C; Packaging: Carton; Gender: Male; Number of Pins: 7; Orientation: Right Angled; Pitch: 7.62mm
footprint 638363122007
pins: 1, 2, 3, 4, 5, 6, 7

## 638363122008
designator P?  (value not drawn)
WR-FAST THT Male Header Angled Blade, pitch 7.62mm, 8p; Manufacturer: Wurth Elektronik; Contact Resistance: 20mΩ; Rated Current: 16A; Working Voltage: 300VAC; ComponentLink1Description: Website Link; ComponentLink1URL: https://www.we-online.com/redexpert/article/638363122008?ad; ComponentLink2Description: Datasheet Link; ComponentLink2URL: https://www.we-online.com/redexpert/spec/638363122008?ad; Manufacturer Part Number: 638363122008; Category: Wire-to-Board Connectors; Match Code: WR-FAST; Mount: Through Hole; Operating Temperature Max: 120°C; Operating Temperature Min: -30°C; Packaging: Carton; Gender: Male; Number of Pins: 8; Orientation: Right Angled; Pitch: 7.62mm
footprint 638363122008
pins: 1, 2, 3, 4, 5, 6, 7, 8

## 638363222002
designator P?  (value not drawn)
WR-FAST THT Male Header Vertical Blade, pitch 7.62mm, 2p; Manufacturer: Wurth Elektronik; Contact Resistance: 20mΩ; Rated Current: 16A; Working Voltage: 300VAC; ComponentLink1Description: Website Link; ComponentLink1URL: https://www.we-online.com/redexpert/article/638363222002?ad; ComponentLink2Description: Datasheet Link; ComponentLink2URL: https://www.we-online.com/redexpert/spec/638363222002?ad; Manufacturer Part Number: 638363222002; Category: Wire-to-Board Connectors; Match Code: WR-FAST; Mount: Through Hole; Operating Temperature Max: 120°C; Operating Temperature Min: -30°C; Packaging: Carton; Gender: Male; Number of Pins: 2; Orientation: Vertical; Pitch: 7.62mm
footprint 638363222002
pins: 1, 2

## 638363222003
designator P?  (value not drawn)
WR-FAST THT Male Header Vertical Blade, pitch 7.62mm, 3p; Manufacturer: Wurth Elektronik; Contact Resistance: 20mΩ; Rated Current: 16A; Working Voltage: 300VAC; ComponentLink1Description: Website Link; ComponentLink1URL: https://www.we-online.com/redexpert/article/638363222003?ad; ComponentLink2Description: Datasheet Link; ComponentLink2URL: https://www.we-online.com/redexpert/spec/638363222003?ad; Manufacturer Part Number: 638363222003; Category: Wire-to-Board Connectors; Match Code: WR-FAST; Mount: Through Hole; Operating Temperature Max: 120°C; Operating Temperature Min: -30°C; Packaging: Carton; Gender: Male; Number of Pins: 3; Orientation: Vertical; Pitch: 7.62mm
footprint 638363222003
pins: 1, 2, 3

## 638363222004
designator P?  (value not drawn)
WR-FAST THT Male Header Vertical Blade, pitch 7.62mm, 4p; Manufacturer: Wurth Elektronik; Contact Resistance: 20mΩ; Rated Current: 16A; Working Voltage: 300VAC; ComponentLink1Description: Website Link; ComponentLink1URL: https://www.we-online.com/redexpert/article/638363222004?ad; ComponentLink2Description: Datasheet Link; ComponentLink2URL: https://www.we-online.com/redexpert/spec/638363222004?ad; Manufacturer Part Number: 638363222004; Category: Wire-to-Board Connectors; Match Code: WR-FAST; Mount: Through Hole; Operating Temperature Max: 120°C; Operating Temperature Min: -30°C; Packaging: Carton; Gender: Male; Number of Pins: 4; Orientation: Vertical; Pitch: 7.62mm
footprint 638363222004
pins: 1, 2, 3, 4

## 638363222005
designator P?  (value not drawn)
WR-FAST THT Male Header Vertical Blade, pitch 7.62mm, 5p; Manufacturer: Wurth Elektronik; Contact Resistance: 20mΩ; Rated Current: 16A; Working Voltage: 300VAC; ComponentLink1Description: Website Link; ComponentLink1URL: https://www.we-online.com/redexpert/article/638363222005?ad; ComponentLink2Description: Datasheet Link; ComponentLink2URL: https://www.we-online.com/redexpert/spec/638363222005?ad; Manufacturer Part Number: 638363222005; Category: Wire-to-Board Connectors; Match Code: WR-FAST; Mount: Through Hole; Operating Temperature Max: 120°C; Operating Temperature Min: -30°C; Packaging: Carton; Gender: Male; Number of Pins: 5; Orientation: Vertical; Pitch: 7.62mm
footprint 638363222005
pins: 1, 2, 3, 4, 5

## 638363222006
designator P?  (value not drawn)
WR-FAST THT Male Header Vertical Blade, pitch 7.62mm, 6p; Manufacturer: Wurth Elektronik; Contact Resistance: 20mΩ; Rated Current: 16A; Working Voltage: 300VAC; ComponentLink1Description: Website Link; ComponentLink1URL: https://www.we-online.com/redexpert/article/638363222006?ad; ComponentLink2Description: Datasheet Link; ComponentLink2URL: https://www.we-online.com/redexpert/spec/638363222006?ad; Manufacturer Part Number: 638363222006; Category: Wire-to-Board Connectors; Match Code: WR-FAST; Mount: Through Hole; Operating Temperature Max: 120°C; Operating Temperature Min: -30°C; Packaging: Carton; Gender: Male; Number of Pins: 6; Orientation: Vertical; Pitch: 7.62mm
footprint 638363222006
pins: 1, 2, 3, 4, 5, 6

## 638363222007
designator P?  (value not drawn)
WR-FAST THT Male Header Vertical Blade, pitch 7.62mm, 7p; Manufacturer: Wurth Elektronik; Contact Resistance: 20mΩ; Rated Current: 16A; Working Voltage: 300VAC; ComponentLink1Description: Website Link; ComponentLink1URL: https://www.we-online.com/redexpert/article/638363222007?ad; ComponentLink2Description: Datasheet Link; ComponentLink2URL: https://www.we-online.com/redexpert/spec/638363222007?ad; Manufacturer Part Number: 638363222007; Category: Wire-to-Board Connectors; Match Code: WR-FAST; Mount: Through Hole; Operating Temperature Max: 120°C; Operating Temperature Min: -30°C; Packaging: Carton; Gender: Male; Number of Pins: 7; Orientation: Vertical; Pitch: 7.62mm
footprint 638363222007
pins: 1, 2, 3, 4, 5, 6, 7

## 638363222008
designator P?  (value not drawn)
WR-FAST THT Male Header Vertical Blade, pitch 7.62mm, 8p; Manufacturer: Wurth Elektronik; Contact Resistance: 20mΩ; Rated Current: 16A; Working Voltage: 300VAC; ComponentLink1Description: Website Link; ComponentLink1URL: https://www.we-online.com/redexpert/article/638363222008?ad; ComponentLink2Description: Datasheet Link; ComponentLink2URL: https://www.we-online.com/redexpert/spec/638363222008?ad; Manufacturer Part Number: 638363222008; Category: Wire-to-Board Connectors; Match Code: WR-FAST; Mount: Through Hole; Operating Temperature Max: 120°C; Operating Temperature Min: -30°C; Packaging: Carton; Gender: Male; Number of Pins: 8; Orientation: Vertical; Pitch: 7.62mm
footprint 638363222008
pins: 1, 2, 3, 4, 5, 6, 7, 8